# Altium footprint library PcbLib1.PcbLib: 4 footprints
Each footprint in its own frame and in the unit in brackets; x right, y up, seen from the top. Pads: shape width x height; smd on the part's side, far side on the other; paste and mask are expansions set on the pad; w line width, h text height; cw(c..) or ccw(c..) is an arc to the next point about the centre after c.
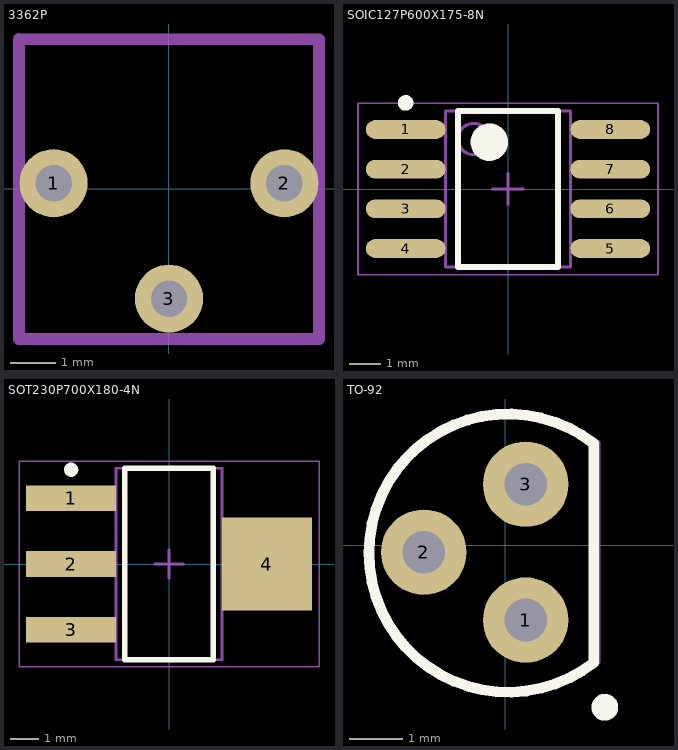
[diagram p0: the footprints below, top view; thin cyan lines are the x and y axes]

## 3362P [mm]
pads (3):
  round 1.5 hole 0.8: 1(-2.54,0.127) 2(2.54,0.127) 3(0,-2.413)
Mechanical 13:
  lines w0.254: -3.302,3.302 -3.302,-3.302 3.302,-3.302 3.302,3.3 -3.3,3.3

## SOIC127P600X175-8N [mm] "SOIC, 8-Leads, Body 4.90x3.90mm, Pitch 1.27mm, IPC Medium Density"
height 1.75
pads (8):
  oval 2.55x0.6 smd: 1(-3.275,1.905) 2(-3.275,0.635) 3(-3.275,-0.635) 4(-3.275,-1.905) 5(3.275,-1.905) 6(3.275,-0.635) 7(3.275,0.635) 8(3.275,1.905)
Top Overlay:
  circle w0.6: c-0.6,1.5 r0.3
  circle w0.25: c-3.275,2.755 r0.125
  lines w0.2: -1.6,-2.5 1.6,-2.5 1.6,2.5 -1.6,2.5 -1.6,-2.5
Mechanical 13:
  circle w0.1: c-1.1,1.6 r0.5
  lines w0.1: -2,-2.5 2,-2.5 2,2.5 -2,2.5 -2,-2.5
Mechanical 15:
  lines w0.05: -4.8,-2.75 4.8,-2.75 4.8,2.75 -4.8,2.75 -4.8,-2.75
  lines w0.1: -0.5,0 0.5,0 ; 0,-0.5 0,0.5
3D body: height 1.75, standoff 0.1, extent -2,-2.5 2,2.5

## SOT230P700X180-4N [mm] "SOT223, 4-Leads, Body 6.50x7.00mm (avg), Pitch 2.30mm, IPC Medium Density"
height 1.8
pads (4):
  rect 3.15x0.9 smd: 1(-3.425,2.3) 2(-3.425,0) 3(-3.425,-2.3)
  rect 3.15x3.25 smd: 4(3.425,0)
Top Overlay:
  circle w0.25: c-3.425,3.3 r0.125
  lines w0.2: -1.55,-3.35 -1.55,3.35 1.55,3.35 1.55,-3.35 -1.55,-3.35
Mechanical 13:
  lines w0.1: -1.85,-3.35 -1.85,3.35 1.85,3.35 1.85,-3.35 -1.85,-3.35
Mechanical 15:
  lines w0.05: -5.25,-3.6 -5.25,3.6 5.25,3.6 5.25,-3.6 -5.25,-3.6
  lines w0.1: -0.5,0 0.5,0 ; 0,-0.5 0,0.5
3D body: height 1.8, standoff 0.02, extent -1.85,-3.35 1.85,3.35

## TO-92 [mm]
pads (3):
  round 1.6 hole 0.8: 1(0.381,-1.397) 2(-1.524,-0.127) 3(0.381,1.143)
Top Overlay:
  circle w0.25: c1.861,-3.027 r0.125
  lines w0.2: 1.651,-2.193 cw(c0.05,-0.144) 1.651,1.905 1.651,-2.193
Mechanical 1:
  lines w0.1: 1.651,-2.193 cw(c0.05,-0.144) 1.651,1.905 ; 1.727,-2.176 1.727,1.922
3D body: height 5.2, standoff 0, extent -2.548,-2.754 1.651,2.467